# EAGLE library part ST62T25CB6 (library ST_Microelctronics_By_element14_Batch_1)
8-BIT MCUs WITH A/D CONVERTER
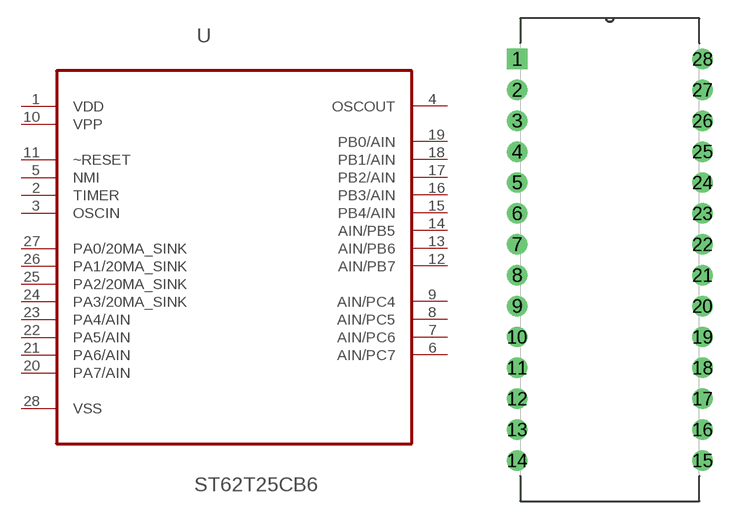
[diagram p309: symbol with the pads of DIP254P1524X635-28; footprint DIP254P1524X635-28]

Designator prefix U

## ST62T25CB6 (MPN: ST62T25CB6; OC_FARNELL: 1094330; OC_NEWARK: 57P2871; PACKAGE: FDIP-28; SUPPLIER: STMICROELECTRONICS)  [DIP254P1524X635-28]
1  VDD  pwr
2  TIMER  in
3  OSCIN  in
4  OSCOUT  out
5  NMI  in
6  AIN/PC7
7  AIN/PC6
8  AIN/PC5
9  AIN/PC4
10  VPP  pwr
11  ~RESET  in
12  AIN/PB7
13  AIN/PB6
14  AIN/PB5
15  PB4/AIN
16  PB3/AIN
17  PB2/AIN
18  PB1/AIN
19  PB0/AIN
20  PA7/AIN
21  PA6/AIN
22  PA5/AIN
23  PA4/AIN
24  PA3/20MA_SINK
25  PA2/20MA_SINK
26  PA1/20MA_SINK
27  PA0/20MA_SINK
28  VSS  pwr

## Footprint DIP254P1524X635-28 (pad centres in mm)
drill 1.118 square: 1 -15.24,33.02
drill 1.118: 2 -15.24,30.48; 3 -15.24,27.94; 4 -15.24,25.4; 5 -15.24,22.86; 6 -15.24,20.32; 7 -15.24,17.78; 8 -15.24,15.24; 9 -15.24,12.7; 10 -15.24,10.16; 11 -15.24,7.62; 12 -15.24,5.08; 13 -15.24,2.54; 14 -15.24,0; 15 0,0; 16 0,2.54; 17 0,5.08; 18 0,7.62; 19 0,10.16; 20 0,12.7; 21 0,15.24; 22 0,17.78; 23 0,20.32; 24 0,22.86; 25 0,25.4; 26 0,27.94; 27 0,30.48; 28 0,33.02